# Altium schematic symbol library Arduino.SchLib: 5 symbols
Pins are listed as number, name and electrical type; pins without a type are passive.

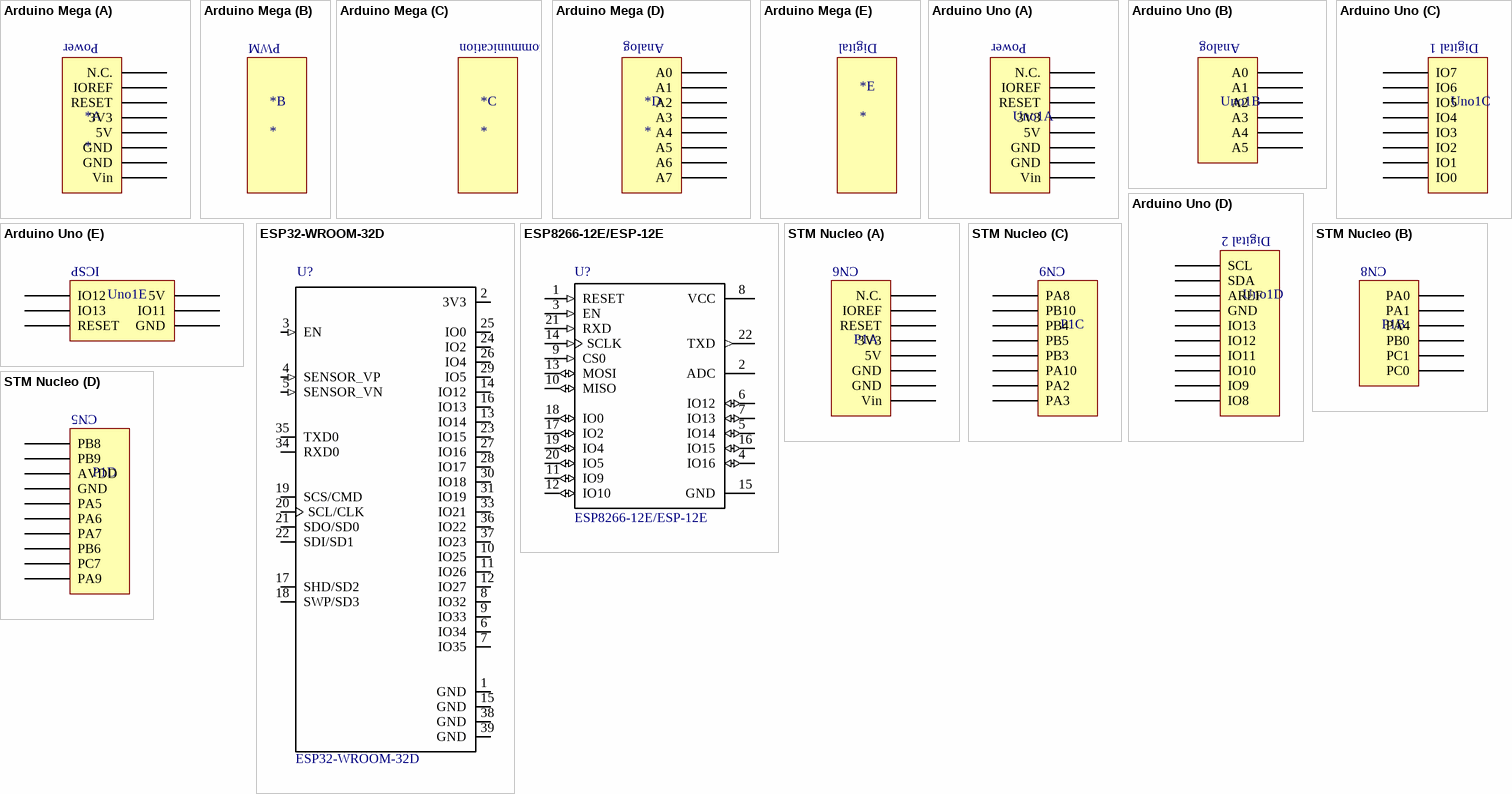
[diagram p0: symbols Arduino Mega to STM Nucleo]

## Arduino Mega
designator *
footprint Arduino Mega
part A pins: 3V3, 5V, GND1 GND, GND2 GND, IOREF, NC N.C., RESET, Vin
part D pins: A0, A1, A2, A3, A4, A5, A6, A7
part A text: Power
part B text: PWM
part C text: Communication
part D text: Analog
part E text: Digital

## Arduino Uno
designator Uno1  (value not drawn)
footprint Arduino Uno Adapter
part A pins: 3V3, 5V, GND1 GND, GND2 GND, IOREF, NC N.C., RESET, Vin
part B pins: A0, A1, A2, A3, A4, A5
part C pins: 0 IO0, 1 IO1, 2 IO2, 3 IO3, 4 IO4, 5 IO5, 6 IO6, 7 IO7
part D pins: 8 IO8, 9 IO9, 10 IO10, 11 IO11, 12 IO12, 13 IO13, AREF, GND3 GND, SCL, SDA
part E pins: ICSP1 IO12, ICSP2 5V, ICSP3 IO13, ICSP4 IO11, ICSP5 RESET, ICSP6 GND
part A text: Power
part B text: Analog
part C text: Digital 1
part D text: Digital 2
part E text: ICSP

## ESP32-WROOM-32D
designator U?
IC: SoC; GPIO, I2C, I2S, IR, SD, SDIO, SPI, UART; 2.7Ã·3.6VDC; 20dBm; MF: Espressif Systems; Availability: Warning; SnapEDA_Link: https://www.snapeda.com/parts/ESP32-WROOM-32D/Espressif%20Systems/view-part/?ref=snap; MP: ESP32-WROOM-32D; Price: 3.98 USD; Package: Module Espressif Systems; Value: *
footprint MODULE_ESP32-WROOM-32D
pins: 1 GND (power), 2 3V3 (power), 3 EN (in), 4 SENSOR_VP (in), 5 SENSOR_VN (in), 6 IO34 (io), 7 IO35 (io), 8 IO32 (io), 9 IO33 (io), 10 IO25 (io), 11 IO26 (io), 12 IO27 (io), 13 IO14 (io), 14 IO12 (io), 15 GND (power), 16 IO13 (io), 17 SHD/SD2 (io), 18 SWP/SD3 (io), 19 SCS/CMD (io), 20 SCL/CLK (io), 21 SDO/SD0 (io), 22 SDI/SD1 (io), 23 IO15 (io), 24 IO2 (io), 25 IO0 (io), 26 IO4 (io), 27 IO16 (io), 28 IO17 (io), 29 IO5 (io), 30 IO18 (io), 31 IO19 (io), 33 IO21 (io), 34 RXD0 (io), 35 TXD0 (io), 36 IO22 (io), 37 IO23 (io), 38 GND (power), 39 GND (power)

## ESP8266-12E/ESP-12E
designator U?
MF: *; Price: None; Availability: Unavailable; MP: ESP8266-12E/ESP-12E; Package: None; Value: *
footprint XCVR_ESP8266-12E/ESP-12E
pins: 1 RESET (in), 2 ADC, 3 EN (in), 4 IO16 (io), 5 IO14 (io), 6 IO12 (io), 7 IO13 (io), 8 VCC (power), 9 CS0 (in), 10 MISO (io), 11 IO9 (io), 12 IO10 (io), 13 MOSI (io), 14 SCLK (in), 15 GND (power), 16 IO15 (io), 17 IO2 (io), 18 IO0 (io), 19 IO4 (io), 20 IO5 (io), 21 RXD (in), 22 TXD (out)

## STM Nucleo
designator P1  (value not drawn)
footprint Arduino Uno Shield
part A pins: 3V3, 5V, GND1 GND, GND2 GND, IOREF, NC N.C., RESET, Vin
part B pins: A0 PA0, A1 PA1, A2 PA4, A3 PB0, A4 PC1, A5 PC0
part C pins: 0 PA3, 1 PA2, 2 PA10, 3 PB3, 4 PB5, 5 PB4, 6 PB10, 7 PA8
part D pins: 8 PA9, 9 PC7, 10 PB6, 11 PA7, 12 PA6, 13 PA5, AREF AVDD, GND3 GND, SCL PB8, SDA PB9
part A text: CN6
part B text: CN8
part C text: CN9
part D text: CN5